# Altium integrated library SAMD21.IntLib: 1 symbol
Pins are listed as number, name and electrical type; pins without a type are passive.

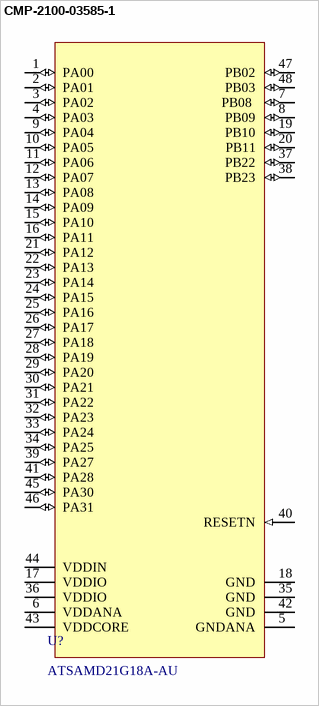
[diagram p0: symbol CMP-2100-03585-1]

## CMP-2100-03585-1
designator U?, comment ATSAMD21G18A-AU
SMART ARM-Based Microcontroller, 1.62 to 3.63 V, 256 KB Flash, 32 KB SRAM, -40 to 85 degC, 48-Pin TQFP, RoHS, Tray; Manufacturer: Atmel; Max Frequency: 48MHz; Number of Timers/Counters: 6; Max Supply Voltage: 3.63V; Min Supply Voltage: 1.62V; Packaging: Tray; Datasheet Version: Rev. N, 10/2016; Datasheet URL: http://www.atmel.com/images/atmel-42181-sam-d21_datasheet.pdf; REACH SVHC: NoSVHC; RoHSCompliant: true; Max Operating Temperature: 85degC; Manufacturer URL: http://www.atmel.com/; Contact Plating: Tin; Frequency: 48MHz; Package Description: 48-Pin Thin Profile Plastic Quad Flat Package, Body 7 x 7 mm, Pitch 0.5 mm; Package Reference: TQFP48; Lead Free: LeadFree; Number of Pins: 48; Min Operating Temperature: -40degC; Case/Package: TQFP; Mount: SurfaceMount
footprint ATML-TQFP48_M (QFP, 48-Leads, Body 7x7mm, Pitch 0.5mm, IPC Low Density)
footprint ATML-TQFP48_L (QFP, 48-Leads, Body 7x7mm, Pitch 0.5mm, IPC High Density)
footprint ATML-TQFP48_N (QFP, 48-Leads, Body 7x7mm, Pitch 0.5mm, IPC Medium Density)
pins: 1 PA00 (io), 2 PA01 (io), 3 PA02 (io), 4 PA03 (io), 5 GNDANA (power) "Ground for the analog power domain", 6 VDDANA (power) "Analog supply voltage", 7 PB08  (io), 8 PB09 (io), 9 PA04 (io), 10 PA05 (io), 11 PA06 (io), 12 PA07 (io), 13 PA08 (io), 14 PA09  (io), 15 PA10  (io), 16 PA11 (io), 17 VDDIO (power) "Digital supply voltage", 18 GND (power) "Ground", 19 PB10 (io), 20 PB11 (io), 21 PA12 (io), 22 PA13  (io), 23 PA14  (io), 24 PA15 (io), 25 PA16 (io), 26 PA17 (io), 27 PA18 (io), 28 PA19 (io), 29 PA20 (io), 30 PA21 (io), 31 PA22 (io), 32 PA23  (io), 33 PA24 (io), 34 PA25 (io), 35 GND (power) "Ground", 36 VDDIO (power) "Digital supply voltage", 37 PB22 (io), 38 PB23 (io), 39 PA27 (io), 40 RESETN (in) "Reset pin", 41 PA28  (io), 42 GND (power) "Ground", 43 VDDCORE (power) "Core supply voltage / external decoupling pin", 44 VDDIN (power), 45 PA30 (io), 46 PA31  (io), 47 PB02 (io), 48 PB03 (io)